# Altium footprint library PcbLib1.PcbLib: 11 footprints
Each footprint in its own frame and in the unit in brackets; x right, y up, seen from the top. Pads: shape width x height; smd on the part's side, far side on the other; paste and mask are expansions set on the pad; w line width, h text height; cw(c..) or ccw(c..) is an arc to the next point about the centre after c.
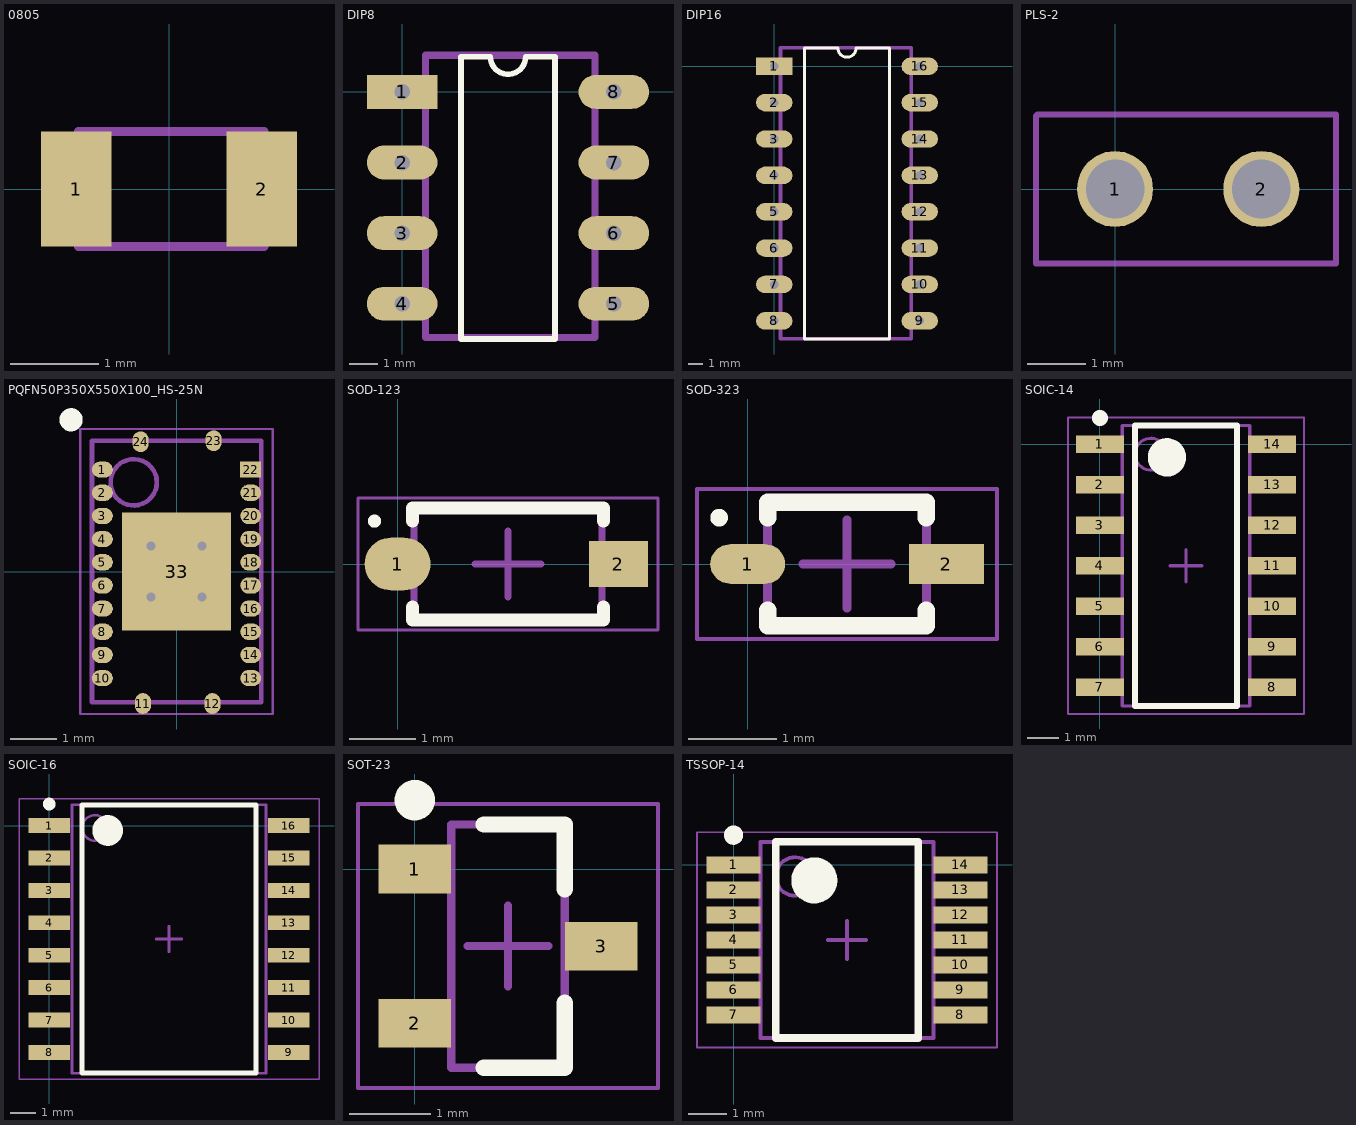
[diagram p0: the footprints below, top view; thin cyan lines are the x and y axes]

## 0805 [mm]
pads (2):
  rect 0.8x1.3 smd: 1(-1.05,0) 2(1.05,0)
Top Assembly:
  lines w0.1: -1.025,-0.65 -1.025,0.65 1.075,0.65 1.075,-0.65 -1.025,-0.65
3D body: height 0.4, standoff 0, extent -1.025,-0.65 1.075,0.65

## DIP8 [mm]
pads (8):
  rect 2.5x1.2 hole 0.55: 1(0,0)
  oval 2.5x1.2 hole 0.55: 2(0,-2.5) 3(0,-5) 4(0,-7.5) 5(7.5,-7.5) 6(7.5,-5) 7(7.5,-2.5) 8(7.5,0)
Top Overlay:
  lines w0.2: 2.085,-8.75 2.085,1.25 3.125,1.25 ccw(c3.75,1.25) 4.375,1.25 5.415,1.25 5.415,-8.75 2.085,-8.75
Top Assembly:
  lines w0.254: 0.83,-8.7 0.83,1.3 6.83,1.3 6.83,-8.7 0.83,-8.7
3D body: height 5, standoff 0, extent 0.83,-8.7 6.83,1.3

## DIP16 [mm]
pads (16):
  rect 2.5x1.2 hole 0.6: 1(0,0)
  oval 2.5x1.2 hole 0.6: 2(0,-2.5) 3(0,-5) 4(0,-7.5) 5(0,-10) 6(0,-12.5) 7(0,-15) 8(0,-17.5) 9(10,-17.5) 10(10,-15) 11(10,-12.5) 12(10,-10) 13(10,-7.5) 14(10,-5) 15(10,-2.5) 16(10,0)
Top Overlay:
  lines w0.2: 2.085,-18.75 2.085,-13.75 2.085,-3.75 2.085,1.25 4.375,1.25 ccw(c5,1.25) 5.625,1.25 7.915,1.25 7.915,-18.75 2.085,-18.75
Top Assembly:
  lines w0.254: 0.425,-18.725 9.425,-18.725 9.425,1.275 0.425,1.275 0.425,-18.725
3D body: height 5, standoff 0, extent 0.425,-18.725 9.425,1.275

## PLS-2 [mm]
pads (2):
  round 1.3 hole 1: 1(0,0) 2(2.5,0)
Top Assembly:
  lines w0.1: -1.35,-1.275 -1.35,1.25 -1.325,1.275 3.775,1.275 3.775,-1.275 -1.35,-1.275
3D body "pls-2.stp": height 8.47, standoff -3.07, extent -1.31,-1.27 3.77,1.27

## PQFN50P350X550X100_HS-25N [mm] "PQFN, 24-Leads, Body 3,50x5,50mm, Pitch 1,50mm/0,50mm, Thermal Pad 2,50x2,20mm, IPC Medium Density"
height 1
pads (33):
  oval 0.45x0.35 smd: 1(-1.6,2.2) 2(-1.6,1.7) 3(-1.6,1.2) 4(-1.6,0.7) 5(-1.6,0.2) 6(-1.6,-0.3) 7(-1.6,-0.8) 8(-1.6,-1.3) 9(-1.6,-1.8) 10(-1.6,-2.3) 13(1.6,-2.3) 14(1.6,-1.8) 15(1.6,-1.3) 16(1.6,-0.8) 17(1.6,-0.3) 18(1.6,0.2) 19(1.6,0.7) 20(1.6,1.2) 21(1.6,1.7)
  oval 0.35x0.45 smd: 11(-0.725,-2.85) 12(0.775,-2.85) 23(0.8,2.825) 24(-0.775,2.8)
  rect 0.45x0.35 smd: 22(1.6,2.2)
  rect 0x0 smd: 25(-0.85,0) 26(-0.35,0) 27(0,0.85) 28(0,0.35) 29(0.85,0) 30(0.35,0) 31(0,-0.85) 32(0,-0.35)
  rect 2.36x2.54 smd mask+0: 33(0,0)
via -0.55,0.55 diameter 0.5 hole 0.2
via 0.55,0.55 diameter 0.5 hole 0.2
via -0.55,-0.55 diameter 0.5 hole 0.2
via 0.55,-0.55 diameter 0.5 hole 0.2
Top Overlay:
  circle w0.25: c-2.275,3.275 r0.125
Top Assembly:
  circle w0.1: c-0.925,1.925 r0.5
  lines w0.1: -1.825,-2.825 -1.825,2.825 1.825,2.825 1.825,-2.825 -1.825,-2.825
Mechanical 15:
  lines w0.05: -2.075,-3.075 -2.075,3.075 2.075,3.075 2.075,-3.075 -2.075,-3.075
  lines w0.1: -0.5,0 0.5,0 ; 0,-0.5 0,0.5
3D body "PQFN50P350X550X100_HS-25N.step": height 1, standoff 0, extent -1.825,-2.825 1.825,2.825

## SOD-123 [mm] "SODFL, 2-Leads, Body 1,55x3,60mm, IPC Medium Density"
height 1.35
pads (2):
  oval 1x0.8 smd: 1(0,0)
  rect 0.9x0.7 smd: 2(3.35,0)
Top Overlay:
  circle w0.1: c-0.35,0.65 r0.05
  lines w0.2: 0.225,-0.65 0.225,-0.85 3.125,-0.85 3.125,-0.65 ; 0.225,0.65 0.225,0.85 3.125,0.85 3.125,0.65
Top Assembly:
  lines w0.1: 0.25,-0.85 0.25,0.85 3.1,0.85 3.1,-0.85 0.25,-0.85
Mechanical 15:
  lines w0.05: -0.6,-1 -0.6,1 3.95,1 3.95,-1 -0.6,-1
  lines w0.1: 1.175,0 2.175,0 ; 1.675,-0.5 1.675,0.5
3D body "SODFL360X135-2N.step": height 1.35, standoff 0, extent -0.125,-0.85 3.475,0.85

## SOD-323 [mm] "SODFL, 2-Leads, Body 1,25x2,50mm, IPC Medium Density"
height 1.1
pads (2):
  oval 0.85x0.45 smd: 1(0,0)
  rect 0.85x0.45 smd: 2(2.25,0)
Top Overlay:
  circle w0.1: c-0.325,0.525 r0.05
  lines w0.2: 0.225,-0.525 0.225,-0.7 2.025,-0.7 2.025,-0.525 ; 0.225,0.525 0.225,0.7 2.025,0.7 2.025,0.525
Top Assembly:
  lines w0.1: 0.225,-0.675 2.025,-0.675 2.025,0.675 0.225,0.675 0.225,-0.675
Mechanical 15:
  lines w0.05: -0.575,-0.85 2.825,-0.85 2.825,0.85 -0.575,0.85 -0.575,-0.85
  lines w0.1: 0.625,0 1.625,0 ; 1.125,-0.5 1.125,0.5
3D body "SODFL250X110-2N.step": height 1.1, standoff 0, extent -0.125,-0.675 2.375,0.675

## SOIC-14 [mm] "SOIC, 14-Leads, Body 8,65x3,90mm, Pitch 1,27mm, IPC Medium Density"
height 1.75
pads (14):
  rect 1.5x0.55 smd: 1(0,0) 2(0,-1.27) 3(0,-2.54) 4(0,-3.81) 5(0,-5.08) 6(0,-6.35) 7(0,-7.62) 8(5.4,-7.62) 9(5.4,-6.35) 10(5.4,-5.08) 11(5.4,-3.81) 12(5.4,-2.54) 13(5.4,-1.27) 14(5.4,0)
Top Overlay:
  circle w0.25: c0,0.825 r0.125
  circle w0.6: c2.1,-0.41 r0.3
  lines w0.2: 1.1,-8.21 1.1,0.59 4.3,0.59 4.3,-8.21 1.1,-8.21
Top Assembly:
  circle w0.1: c1.6,-0.31 r0.5
  lines w0.1: 0.7,-8.21 0.7,0.59 4.7,0.59 4.7,-8.21 0.7,-8.21
Mechanical 15:
  lines w0.05: -1,-8.46 -1,0.84 6.4,0.84 6.4,-8.46 -1,-8.46
  lines w0.1: 2.2,-3.81 3.2,-3.81 ; 2.7,-4.31 2.7,-3.31
3D body "SOIC127P600X175-14N.step": height 1.75, standoff 0, extent -0.3,-8.21 5.7,0.59

## SOIC-16 [mm] "SOIC, 16-Leads, Body 10,30x7,50mm, Pitch 1,27mm, IPC Medium Density"
height 2.65
pads (16):
  rect 1.62x0.58 smd: 1(0,0) 2(0,-1.27) 3(0,-2.54) 4(0,-3.81) 5(0,-5.08) 6(0,-6.35) 7(0,-7.62) 8(0,-8.89) 9(9.38,-8.89) 10(9.38,-7.62) 11(9.38,-6.35) 12(9.38,-5.08) 13(9.38,-3.81) 14(9.38,-2.54) 15(9.38,-1.27) 16(9.38,0)
Top Overlay:
  circle w0.6: c2.29,-0.195 r0.3
  circle w0.25: c0,0.84 r0.125
  lines w0.2: 1.29,-9.695 8.09,-9.695 8.09,0.805 1.29,0.805 1.29,-9.695
Top Assembly:
  circle w0.1: c1.79,-0.095 r0.5
  lines w0.1: 0.89,-9.695 8.49,-9.695 8.49,0.805 0.89,0.805 0.89,-9.695
Mechanical 15:
  lines w0.05: -1.185,-9.945 10.565,-9.945 10.565,1.055 -1.185,1.055 -1.185,-9.945
  lines w0.1: 4.19,-4.445 5.19,-4.445 ; 4.69,-4.945 4.69,-3.945
3D body "SOIC127P1030X265-16N.step": height 2.65, standoff 0, extent -0.46,-9.695 9.84,0.805

## SOT-23 [mm] "SOT23, 3-Leads, Body 2,90x2,30mm, Pitch 0,95mm, IPC Medium Density"
height 1.1
pads (3):
  rect 0.9x0.6 smd: 1(0,0) 2(0,-1.9) 3(2.3,-0.95)
Top Overlay:
  circle w0.25: c0,0.85 r0.125
  lines w0.2: 0.85,-2.45 1.85,-2.45 1.85,-1.65 ; 0.85,0.55 1.85,0.55 1.85,-0.25
Top Assembly:
  lines w0.1: 0.45,-2.45 0.45,0.55 1.85,0.55 1.85,-2.45 0.45,-2.45
Mechanical 15:
  lines w0.05: -0.7,-2.7 -0.7,0.8 3,0.8 3,-2.7 -0.7,-2.7
  lines w0.1: 0.65,-0.95 1.65,-0.95 ; 1.15,-1.45 1.15,-0.45
3D body "SOT95P230X110-3N.step": height 1.1, standoff 0, extent -0.15,-2.45 2.45,0.55

## TSSOP-14 [mm] "TSOP, 14-Leads, Body 5,00x4,40mm, Pitch 0,65mm, IPC Medium Density"
height 1.1
pads (14):
  rect 1.4x0.45 smd: 1(0,0) 2(0,-0.65) 3(0,-1.3) 4(0,-1.95) 5(0,-2.6) 6(0,-3.25) 7(0,-3.9) 8(5.9,-3.9) 9(5.9,-3.25) 10(5.9,-2.6) 11(5.9,-1.95) 12(5.9,-1.3) 13(5.9,-0.65) 14(5.9,0)
Top Overlay:
  circle w0.25: c0,0.775 r0.125
  circle w0.6: c2.1,-0.4 r0.3
  lines w0.2: 1.1,-4.5 1.1,0.6 4.8,0.6 4.8,-4.5 1.1,-4.5
Top Assembly:
  circle w0.1: c1.6,-0.3 r0.5
  lines w0.1: 0.7,-4.5 0.7,0.6 5.2,0.6 5.2,-4.5 0.7,-4.5
Mechanical 15:
  lines w0.05: -0.95,-4.75 -0.95,0.85 6.85,0.85 6.85,-4.75 -0.95,-4.75
  lines w0.1: 2.45,-1.95 3.45,-1.95 ; 2.95,-2.45 2.95,-1.45
3D body "TSOP65P640X110-14N.step": height 1.1, standoff 0, extent -0.25,-4.5 6.15,0.6